# EAGLE library part AE-TTL-232R-CN (library Pocket_Beagle_Pinout)
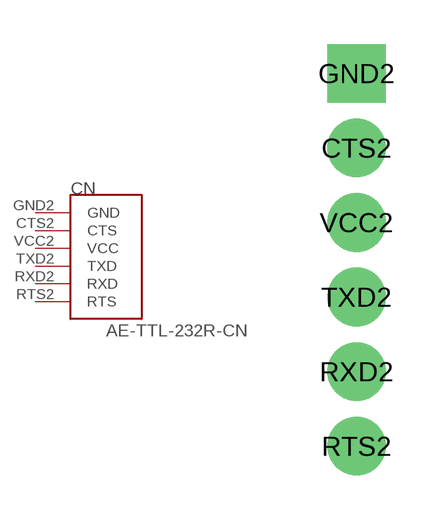
[diagram p7: symbol with the pads of AE-TTL-232R-CN; footprint AE-TTL-232R-CN]

Designator prefix CN

## AE-TTL-232R-CN  [AE-TTL-232R-CN]
CTS2  CTS
GND2  GND
RTS2  RTS
RXD2  RXD
TXD2  TXD
VCC2  VCC

## Footprint AE-TTL-232R-CN (pad centres in mm)
drill 0.9 pad 2: CTS2 -1.27,3.81; RTS2 -1.27,-6.35; RXD2 -1.27,-3.81; TXD2 -1.27,-1.27; VCC2 -1.27,1.27
drill 0.9 pad 2 square: GND2 -1.27,6.35